# Altium footprint library DIOC - DIOdeChip.PcbLib: 41 footprints (part 3 of 3)
Each footprint in its own frame and in the unit in brackets; x right, y up, seen from the top. Pads: shape width x height; smd on the part's side, far side on the other; paste and mask are expansions set on the pad; w line width, h text height; cw(c..) or ccw(c..) is an arc to the next point about the centre after c.
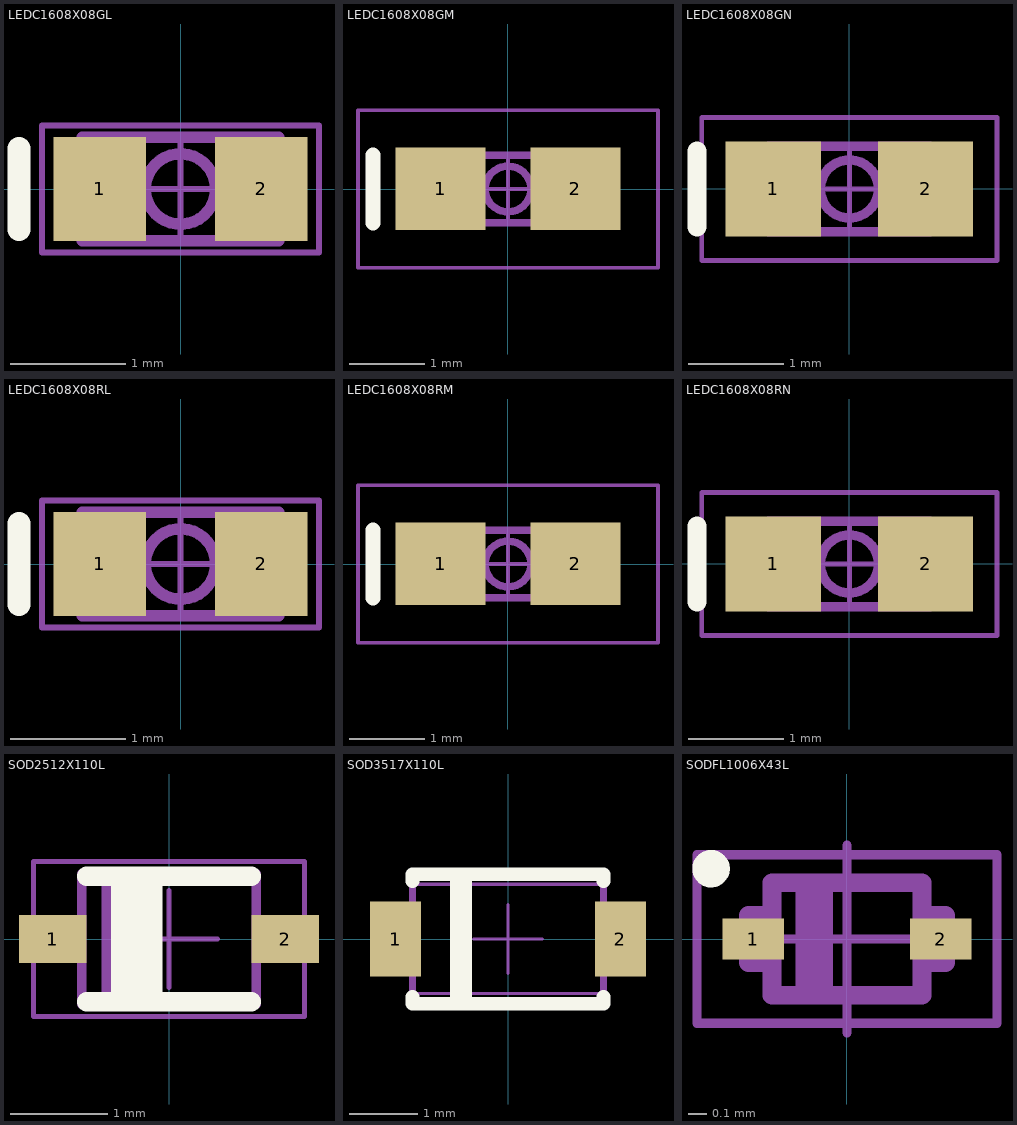
[diagram p2: the footprints below, top view; thin cyan lines are the x and y axes]

## LEDC1608X08GL [mm] "Chip Green LED, Body 1.6x0.8mm, IPC High Density"
height 0.85
pads (2):
  rect 0.8x0.9 smd: 1(-0.7,0) 2(0.7,0)
Top Overlay:
  lines w0.2: -1.4,-0.35 -1.4,0.35
TopBody:
  circle w0.1: c0,0 r0.305
  lines w0.1: -0.5,-0.45 -0.5,0.45 ; -0.85,-0.45 0.85,-0.45 0.85,0.45 -0.85,0.45 -0.85,-0.45
TopCourtyard:
  lines w0.05: -0.475,0 0.475,0 ; 0,-0.475 0,0.475 ; -1.2,-0.55 1.2,-0.55 1.2,0.55 -1.2,0.55 -1.2,-0.55
3D body: height 0.65, standoff 0.6, extent -0.311,-0.311 0.311,0.311
3D body: height 0.65, standoff 0, extent 0.5,-0.45 0.85,0.45
3D body: height 0.65, standoff 0, extent -0.85,-0.45 -0.5,0.45
3D body: height 0.65, standoff 0, extent -0.5,-0.45 0.5,0.45

## LEDC1608X08GM [mm] "Chip Green LED, Body 1.6x0.8mm, IPC Low Density"
height 0.85
pads (2):
  rect 1.2x1.1 smd: 1(-0.9,0) 2(0.9,0)
Top Overlay:
  lines w0.2: -1.8,-0.45 -1.8,0.45
TopBody:
  circle w0.1: c0,0 r0.305
  lines w0.1: -0.5,-0.45 -0.5,0.45 ; -0.85,-0.45 -0.85,0.45 0.85,0.45 0.85,-0.45 -0.85,-0.45
TopCourtyard:
  lines w0.05: -0.475,0 0.475,0 ; 0,-0.475 0,0.475 ; -2,-1.05 -2,1.05 2,1.05 2,-1.05 -2,-1.05
3D body: height 0.65, standoff 0, extent -0.5,-0.45 0.5,0.45
3D body: height 0.65, standoff 0, extent -0.85,-0.45 -0.5,0.45
3D body: height 0.65, standoff 0, extent 0.5,-0.45 0.85,0.45
3D body: height 0.65, standoff 0.6, extent -0.311,-0.311 0.311,0.311

## LEDC1608X08GN [mm] "Chip Green LED, Body 1.6x0.8mm, IPC Medium Density"
height 0.85
pads (2):
  rect 1x1 smd: 1(-0.8,0) 2(0.8,0)
Top Overlay:
  lines w0.2: -1.6,-0.4 -1.6,0.4
TopBody:
  circle w0.1: c0,0 r0.305
  lines w0.1: -0.5,-0.45 -0.5,0.45 ; -0.85,-0.45 -0.85,0.45 0.85,0.45 0.85,-0.45 -0.85,-0.45
TopCourtyard:
  lines w0.05: -0.475,0 0.475,0 ; 0,-0.475 0,0.475 ; -1.55,-0.75 1.55,-0.75 1.55,0.75 -1.55,0.75 -1.55,-0.75
3D body: height 0.65, standoff 0, extent -0.5,-0.45 0.5,0.45
3D body: height 0.65, standoff 0, extent -0.85,-0.45 -0.5,0.45
3D body: height 0.65, standoff 0, extent 0.5,-0.45 0.85,0.45
3D body: height 0.65, standoff 0.6, extent -0.311,-0.311 0.311,0.311

## LEDC1608X08RL [mm] "Chip Red LED, Body 1.6x0.8mm, IPC High Density"
height 0.85
pads (2):
  rect 0.8x0.9 smd: 1(-0.7,0) 2(0.7,0)
Top Overlay:
  lines w0.2: -1.4,-0.35 -1.4,0.35
TopBody:
  circle w0.1: c0,0 r0.305
  lines w0.1: -0.5,-0.45 -0.5,0.45 ; -0.85,-0.45 -0.85,0.45 0.85,0.45 0.85,-0.45 -0.85,-0.45
TopCourtyard:
  lines w0.05: -0.475,0 0.475,0 ; 0,-0.475 0,0.475 ; -1.2,-0.55 -1.2,0.55 1.2,0.55 1.2,-0.55 -1.2,-0.55
3D body: height 0.65, standoff 0, extent -0.5,-0.45 0.5,0.45
3D body: height 0.65, standoff 0, extent -0.85,-0.45 -0.5,0.45
3D body: height 0.65, standoff 0, extent 0.5,-0.45 0.85,0.45
3D body: height 0.65, standoff 0.6, extent -0.311,-0.311 0.311,0.311

## LEDC1608X08RM [mm] "Chip Red LED, Body 1.6x0.8mm, IPC Low Density"
height 0.85
pads (2):
  rect 1.2x1.1 smd: 1(-0.9,0) 2(0.9,0)
Top Overlay:
  lines w0.2: -1.8,-0.45 -1.8,0.45
TopBody:
  circle w0.1: c0,0 r0.305
  lines w0.1: -0.5,-0.45 -0.5,0.45 ; -0.85,-0.45 -0.85,0.45 0.85,0.45 0.85,-0.45 -0.85,-0.45
TopCourtyard:
  lines w0.05: -0.475,0 0.475,0 ; 0,-0.475 0,0.475 ; -2,-1.05 -2,1.05 2,1.05 2,-1.05 -2,-1.05
3D body: height 0.65, standoff 0, extent -0.5,-0.45 0.5,0.45
3D body: height 0.65, standoff 0, extent -0.85,-0.45 -0.5,0.45
3D body: height 0.65, standoff 0, extent 0.5,-0.45 0.85,0.45
3D body: height 0.65, standoff 0.6, extent -0.311,-0.311 0.311,0.311

## LEDC1608X08RN [mm] "Chip Red LED, Body 1.6x0.8mm, IPC Medium Density"
height 0.85
pads (2):
  rect 1x1 smd: 1(-0.8,0) 2(0.8,0)
Top Overlay:
  lines w0.2: -1.6,-0.4 -1.6,0.4
TopBody:
  circle w0.1: c0,0 r0.305
  lines w0.1: -0.5,-0.45 -0.5,0.45 ; -0.85,-0.45 0.85,-0.45 0.85,0.45 -0.85,0.45 -0.85,-0.45
TopCourtyard:
  lines w0.05: -0.475,0 0.475,0 ; 0,-0.475 0,0.475 ; -1.55,-0.75 -1.55,0.75 1.55,0.75 1.55,-0.75 -1.55,-0.75
3D body: height 0.65, standoff 0.6, extent -0.311,-0.311 0.311,0.311
3D body: height 0.65, standoff 0, extent 0.5,-0.45 0.85,0.45
3D body: height 0.65, standoff 0, extent -0.85,-0.45 -0.5,0.45
3D body: height 0.65, standoff 0, extent -0.5,-0.45 0.5,0.45

## SOD2512X110L [mm] "SOD Diode, Body 1.70 W x 1.25mm L x 1.10mm H, IPC High Density, SOD-323"
height 1.1
pads (2):
  rect 0.7x0.5 smd: 1(-1.2,0) 2(1.2,0)
Top Overlay:
  rectangle: -0.6,-0.675 -0.065,0.675
  lines w0.2: -0.85,-0.65 0.85,-0.65 ; -0.85,0.65 0.85,0.65
TopBody:
  rectangle: -0.7,-0.675 -0.375,0.675
  lines w0.1: -0.9,-0.2 -1.4,-0.2 -1.4,0.2 -0.9,0.2 ; 0.9,-0.2 1.4,-0.2 1.4,0.2 0.9,0.2 ; -0.9,-0.675 -0.9,0.675 0.9,0.675 0.9,-0.675 -0.9,-0.675
TopCourtyard:
  lines w0.05: -0.5,0 0.5,0 ; 0,-0.5 0,0.5 ; -1.4,-0.8 1.4,-0.8 1.4,0.8 -1.4,0.8 -1.4,-0.8
3D body: height 0.15, standoff 0, extent -1.4,-0.2 -0.9,0.2
3D body: height 0.15, standoff 0, extent 0.9,-0.2 1.4,0.2
3D body: height 1.1, standoff 0, extent -0.9,-0.675 0.9,0.675

## SOD3517X110L [mm] "SOD Diode, Body 2.60 W x 1.70 L x 1.10 H mm, IPC High Density, SOD-123"
height 1.1
pads (2):
  rect 0.75x1.1 smd: 1(-1.65,0) 2(1.65,0)
Top Overlay:
  rectangle: -0.85,-0.95 -0.525,0.95
  lines w0.2: -1.4,-0.85 -1.4,-0.95 1.4,-0.95 1.4,-0.85 ; -1.4,0.85 -1.4,0.95 1.4,0.95 1.4,0.85
TopBody:
  rectangle: -0.85,-0.95 -0.525,0.95
  lines w0.1: -1.4,-0.45 -1.75,-0.45 -1.75,0.45 -1.4,0.45 ; 1.4,-0.45 1.75,-0.45 1.75,0.45 1.4,0.45 ; -1.4,-0.95 -1.4,0.95 1.4,0.95 1.4,-0.95 -1.4,-0.95
TopCourtyard:
  lines w0.05: -0.5,0 0,0 ; 0,-0.5 0,0 ; 0,0.5 0,0 ; 0.5,0 0,0 ; -1.4,-0.8 1.4,-0.8 1.4,0.8 -1.4,0.8 -1.4,-0.8
3D body: height 0.22, standoff 0, extent 1.4,-0.45 1.75,0.45
3D body: height 0.22, standoff 0, extent -1.75,-0.45 -1.4,0.45
3D body: height 1.1, standoff 0, extent -1.4,-0.95 1.4,0.95

## SODFL1006X43L [mm] "SODFL Diode, Body 0.80 W x 0.60 L x 0.43 H mm, IPC High Density, SOD-923"
height 0.43
pads (2):
  rect 0.33x0.22 smd mask+0.05: 1(-0.5,0) 2(0.5,0)
Top Overlay:
  circle w0.1: c-0.725,0.375 r0.05
Top Solder:
  circle w0.1: c-0.725,0.375 r0.05
TopBody:
  rectangle: -0.275,-0.3 -0.075,0.3
  lines w0.1: -0.4,-0.125 -0.525,-0.125 -0.525,0.125 -0.4,0.125 ; 0.4,-0.125 0.525,-0.125 0.525,0.125 0.4,0.125 ; -0.4,-0.3 0.4,-0.3 0.4,0.3 -0.4,0.3 -0.4,-0.3
TopCourtyard:
  lines w0.05: -0.5,0 0.5,0 ; 0,-0.5 0,0.5 ; -0.8,-0.45 -0.8,0.45 0.8,0.45 0.8,-0.45 -0.8,-0.45
3D body: height 0.44, standoff 0.43, extent -0.275,-0.3 -0.075,0.3
3D body: height 0.43, standoff 0, extent -0.4,-0.3 0.4,0.3
3D body: height 0.17, standoff 0, extent -0.525,-0.125 -0.4,0.125
3D body: height 0.17, standoff 0, extent 0.4,-0.125 0.525,0.125